# Altium footprint library temperatureSensor.PcbLib: 20 footprints (part 1 of 2)
Each footprint in its own frame and in the unit in brackets; x right, y up, seen from the top. Pads: shape width x height; smd on the part's side, far side on the other; paste and mask are expansions set on the pad; w line width, h text height; cw(c..) or ccw(c..) is an arc to the next point about the centre after c.
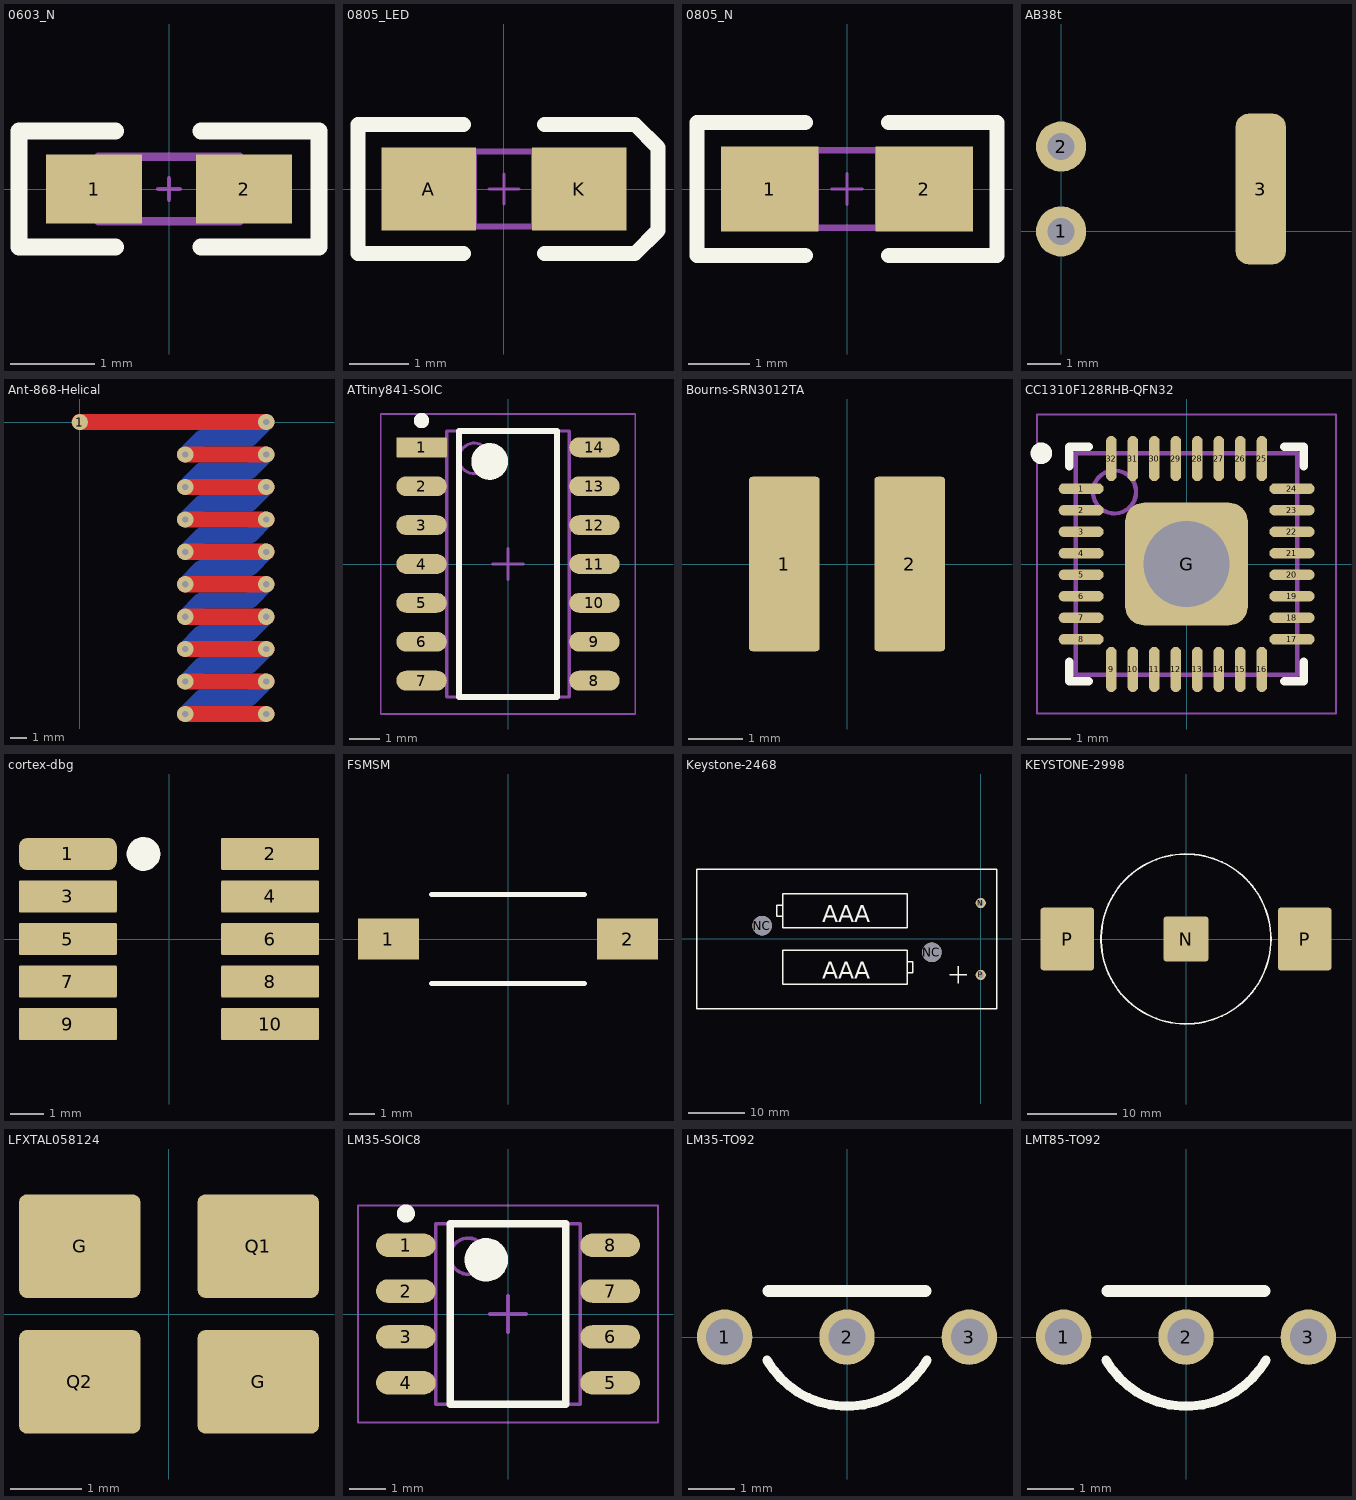
[diagram p0: the footprints below, top view; thin cyan lines are the x and y axes]

## 0603_N [mil] "0603 normal hand soldering size"
height 22
pads (2):
  rect 45x32 smd: 1(-35,0) 2(35,0)
Top Overlay:
  lines w8: -25,-27 -70,-27 -70,27 -25,27 ; 15,-27 70,-27 70,27 15,27
Mechanical 1:
  lines w2: -5,0 5,0 ; 0,-5 0,5
  lines w4: -18,-15 -18,15 ; 18,-15 18,15 ; -33,-15 33,-15 33,15 -33,15 -33,-15
3D body: height 22, standoff 0, extent -67,-24 67,24

## 0805_LED [mil] "0805 normal hand soldering size"
height 25
pads (2):
  rect 63x55 smd: A(-50,0) K(50,0)
Top Overlay:
  lines w10: -27,-43 -97,-43 -97,43 -27,43 ; 27,-43 86.92,-43 102.36,-27.56 102.36,20.67 102.36,27.56 86.92,43 27,43
Mechanical 1:
  lines w2: -10,0 10,0 ; 0,-10 0,10
  lines w4: -20,-25 -20,25 ; 20,-25 20,25 ; -40,-25 -40,25 40,25 40,-25 -40,-25
3D body: height 25, standoff 0, extent -94,-33 94,33

## 0805_N [mil] "0805 normal hand soldering size"
height 25
pads (2):
  rect 63x55 smd: 1(-50,0) 2(50,0)
Top Overlay:
  lines w10: -27,-43 -97,-43 -97,43 -27,43 ; 27,-43 97,-43 97,43 27,43
Mechanical 1:
  lines w2: -10,0 10,0 ; 0,-10 0,10
  lines w4: -20,-25 -20,25 ; 20,-25 20,25 ; -40,-25 -40,25 40,25 40,-25 -40,-25
3D body: height 25, standoff 0, extent -94,-33 94,33

## AB38t [mm]
pads (3):
  round 1.5 hole 0.8: 1(0,0) 2(0,2.54)
  rrect50% 1.5x4.5 smd: 3(5.969,1.27)
3D body: height 3.2, standoff 0, extent 2.54,-0.326 10.84,2.87

## Ant-868-Helical [mm] "868 MHz Helical PCB Antenna"
pads (1):
  round 1 smd: 1(0,0)
via 11.5,0 diameter 1 hole 0.38
via 11.5,-2 diameter 1 hole 0.38
via 11.5,-4 diameter 1 hole 0.38
via 11.5,-6 diameter 1 hole 0.38
via 11.5,-8 diameter 1 hole 0.38
via 6.5,-8 diameter 1 hole 0.38
via 6.5,-6 diameter 1 hole 0.38
via 6.5,-4 diameter 1 hole 0.38
via 6.5,-2 diameter 1 hole 0.38
via 6.5,-10 diameter 1 hole 0.38
via 6.5,-12 diameter 1 hole 0.38
via 6.5,-14 diameter 1 hole 0.38
via 6.5,-16 diameter 1 hole 0.38
via 6.5,-18 diameter 1 hole 0.38
via 11.5,-18 diameter 1 hole 0.38
via 11.5,-16 diameter 1 hole 0.38
via 11.5,-14 diameter 1 hole 0.38
via 11.5,-10 diameter 1 hole 0.38
via 11.5,-12 diameter 1 hole 0.38
Top Layer:
  lines w1: 0,0 11.5,0 ; 6.5,-18 11.5,-18 ; 6.5,-14 11.5,-14 ; 6.5,-12 11.5,-12 ; 6.5,-10 11.5,-10 ; 6.5,-8 11.5,-8 ; 6.5,-6 11.5,-6 ; 6.5,-4 11.5,-4 ; 6.5,-2 11.5,-2 ; 6.5,-16 11.5,-16 6.5,-16
Bottom Layer:
  lines w1: 6.5,-18 7.5,-17 10.5,-17 11.5,-16 ; 6.5,-16 7.5,-15 10.5,-15 11.5,-14 ; 6.5,-14 7.5,-13 10.5,-13 11.5,-12 ; 6.5,-12 7.5,-11 10.5,-11 11.5,-10 ; 6.5,-10 7.5,-9 10.5,-9 11.5,-8 ; 6.5,-8 7.5,-7 10.5,-7 11.5,-6 ; 6.5,-6 7.5,-5 10.5,-5 11.5,-4 ; 6.5,-4 7.5,-3 10.5,-3 11.5,-2 ; 6.5,-2 7.5,-1 10.5,-1 11.5,0

## ATtiny841-SOIC [mm] "SOIC, 14-Leads, Body 8,65x3,90mm, Pitch 1,27mm, IPC Low Density"
height 1.75
pads (14):
  rrect10% 1.65x0.65 smd: 1(-2.825,3.81)
  oval 1.65x0.65 smd: 2(-2.825,2.54) 3(-2.825,1.27) 4(-2.825,0) 5(-2.825,-1.27) 6(-2.825,-2.54) 7(-2.825,-3.81) 8(2.825,-3.81) 9(2.825,-2.54) 10(2.825,-1.27) 11(2.825,0) 12(2.825,1.27) 13(2.825,2.54) 14(2.825,3.81)
Top Overlay:
  circle w0.6: c-0.6,3.35 r0.3
  circle w0.25: c-2.825,4.685 r0.125
  lines w0.2: -1.6,-4.35 1.6,-4.35 1.6,4.35 -1.6,4.35 -1.6,-4.35
Mechanical 13:
  circle w0.1: c-1.1,3.45 r0.5
  lines w0.1: -2,-4.35 2,-4.35 2,4.35 -2,4.35 -2,-4.35
Mechanical 15:
  lines w0.05: -4.15,-4.9 4.15,-4.9 4.15,4.9 -4.15,4.9 -4.15,-4.9
  lines w0.1: -0.5,0 0.5,0 ; 0,-0.5 0,0.5
3D body "ATtiny841-SOIC.step": height 1.75, standoff 0, extent -2.997,-4.35 2.997,4.35

## Bourns-SRN3012TA [mm] "Semi-shielded Power Inductor"
pads (2):
  rrect10% 1.3x3.2 smd: 1(-1.15,0) 2(1.15,0)
3D body "SRN3012TA.stp": height 1.22, standoff 0.02, extent -1.499,-1.498 1.498,1.499

## CC1310F128RHB-QFN32 [mm] "QFN, 32-Leads, Body 5,00x5,00mm, Pitch 0,50mm, Thermal Pad 3,45x3,45mm, IPC Low Density"
height 1
pads (33):
  oval 1.05x0.25 smd: 1(-2.45,1.75) 2(-2.45,1.25) 3(-2.45,0.75) 4(-2.45,0.25) 5(-2.45,-0.25) 6(-2.45,-0.75) 7(-2.45,-1.25) 8(-2.45,-1.75) 17(2.45,-1.75) 18(2.45,-1.25) 19(2.45,-0.75) 20(2.45,-0.25) 21(2.45,0.25) 22(2.45,0.75) 23(2.45,1.25) 24(2.45,1.75)
  oval 0.25x1.05 smd: 9(-1.75,-2.45) 10(-1.25,-2.45) 11(-0.75,-2.45) 12(-0.25,-2.45) 13(0.25,-2.45) 14(0.75,-2.45) 15(1.25,-2.45) 16(1.75,-2.45) 25(1.75,2.45) 26(1.25,2.45) 27(0.75,2.45) 28(0.25,2.45) 29(-0.25,2.45) 30(-0.75,2.45) 31(-1.25,2.45) 32(-1.75,2.45)
  rrect30% 2.85x2.85 / inner round 2.6 / far side round 2.6 hole 2: G(0,0)
Top Overlay:
  circle w0.25: c-3.375,2.575 r0.125
  lines w0.2: -2.725,-2.275 -2.725,-2.725 -2.275,-2.725 ; -2.725,2.275 -2.725,2.725 -2.275,2.725 ; 2.275,-2.725 2.725,-2.725 2.725,-2.275 ; 2.275,2.725 2.725,2.725 2.725,2.275
Mechanical 13:
  circle w0.1: c-1.675,1.675 r0.5
  lines w0.1: -2.575,-2.575 -2.575,2.575 2.575,2.575 2.575,-2.575 -2.575,-2.575
Mechanical 15:
  lines w0.05: -3.475,-3.475 -3.475,3.475 3.475,3.475 3.475,-3.475 -3.475,-3.475
  lines w0.1: -0.5,0 0.5,0 ; 0,-0.5 0,0.5
3D body "CC1310F128RHB-QFN32.step": height 1, standoff 0, extent -2.625,-2.625 2.625,2.625

## cortex-dbg [mm]
pads (10):
  rrect50% 2.92x0.95 smd: 1(-3.02,2.54)
  rrect5% 2.92x0.95 smd: 2(3.02,2.54) 3(-3.02,1.27) 4(3.02,1.27) 5(-3.02,0) 6(3.02,0) 7(-3.02,-1.27) 8(3.02,-1.27) 9(-3.02,-2.54) 10(3.02,-2.54)
Top Overlay:
  circle w0.5: c-0.762,2.54 r0.254
3D body "FTSH-105-01-L-DV-K.stp": height 6.16, standoff 0.04, extent -2.921,-3.175 2.921,3.175

## FSMSM [mm]
pads (2):
  rect 2.39x1.6 smd: 1(-4.695,0) 2(4.695,0)
Top Overlay:
  lines w0.2: -3,-1.75 3,-1.75 ; -3,1.75 3,1.75
3D body "c-1437566-3-c-3d.stp": height 4.45, standoff 0.04, extent -4.984,-1.75 4.985,1.75

## Keystone-2468 [mm] "Double AAA battery holder"
pads (4):
  round 1.8 hole 1.02: N(0,6.35) P(0,-6.35)
  round 3.45 hole 3.45 unplated: NC(-38.61,2.35) NC(-8.64,-2.35)
Top Overlay:
  lines w0.254: -35,4 -36,4 -36,6 -35,6 ; -13,-6 -12,-6 -12,-4 -13,-4 ; -5.5,-6.35 -2.5,-6.35 ; -4,-7.85 -4,-4.85 ; -50.115,-12.295 2.865,-12.295 2.865,12.295 -50.115,12.295 -50.115,-12.295 ; -35,-8 -35,-2 -13,-2 -13,-8 -35,-8 ; -35,2 -35,8 -13,8 -13,2 -35,2
  text "AAA" at -28,3 h3
  text "AAA" at -28,-7 h3
3D body "keystone-PN2468.STEP": height 13.43, standoff -12.49, extent -50.119,-12.295 2.865,12.292

## KEYSTONE-2998 [mm]
pads (3):
  rrect10% 5x5 smd: N(0,0)
  rrect10% 6x7 smd: P(-13.285,0) P(13.285,0)
Top Overlay:
  circle w0.2: c0,0 r9.5
3D body "keystone-PN3002.STEP": height 4.05, standoff 0.09, extent -15.38,-10.508 15.38,9.355

## LFXTAL058124 [mm] "Crystal SMD 3.2x2.5mm"
pads (4):
  rrect15% 1.7x1.45 smd: G(-1.25,0.95) G(1.25,-0.95) Q1(1.25,0.95) Q2(-1.25,-0.95)
3D body: height 0.8, standoff 0, extent -1.7,-1.35 1.7,1.35

## LM35-SOIC8 [mm] "SOIC, 8-Leads, Body 4,90x3,90mm, Pitch 1,27mm, IPC Low Density"
height 1.75
pads (8):
  oval 1.65x0.65 smd: 1(-2.825,1.905) 2(-2.825,0.635) 3(-2.825,-0.635) 4(-2.825,-1.905) 5(2.825,-1.905) 6(2.825,-0.635) 7(2.825,0.635) 8(2.825,1.905)
Top Overlay:
  circle w0.6: c-0.6,1.5 r0.3
  circle w0.25: c-2.825,2.78 r0.125
  lines w0.2: -1.6,-2.5 1.6,-2.5 1.6,2.5 -1.6,2.5 -1.6,-2.5
Mechanical 13:
  circle w0.1: c-1.1,1.6 r0.5
  lines w0.1: -2,-2.5 2,-2.5 2,2.5 -2,2.5 -2,-2.5
Mechanical 15:
  lines w0.05: -4.15,-3 4.15,-3 4.15,3 -4.15,3 -4.15,-3
  lines w0.1: -0.5,0 0.5,0 ; 0,-0.5 0,0.5
3D body "LM35-SOIC8.step": height 1.75, standoff 0, extent -3,-2.5 3,2.5

## LM35-TO92 [mm] "TO92 Package"
pads (3):
  round 1.2 hole 0.8: 1(-2.65,0) 2(0,0) 3(2.65,0)
Top Overlay:
  lines w0.2: -1.732,-0.5 ccw(c0,0.5) 1.732,-0.5
  lines w0.254: -1.7,1 1.7,1

## LMT85-TO92 [mm] "TO92 Package"
pads (3):
  round 1.2 hole 0.8: 1(-2.65,0) 2(0,0) 3(2.65,0)
Top Overlay:
  lines w0.2: -1.732,-0.5 ccw(c0,0.5) 1.732,-0.5
  lines w0.254: -1.7,1 1.7,1